# Altium schematic symbol library 691 243 110 0xx.SchLib: 7 symbols
Pins are listed as number, name and electrical type; pins without a type are passive.

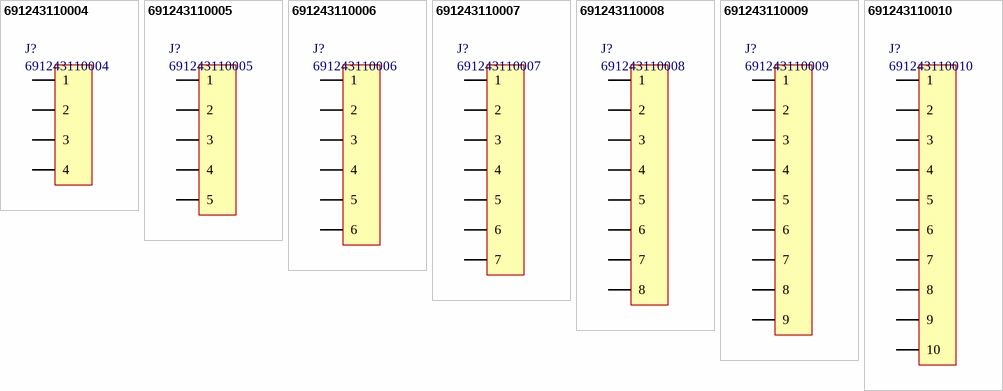
[diagram p0: symbols 691243110004 to 691243110010]

## 691243110004
designator J?
Horizontal Cable Entry with Rising Cage Clamp, Serie 2431 - 3.5 mm; Manufacturer: Wurth Elektronik; ComponentLink1 Description: Manufacturer; ComponentLink2 Description: Datasheet; NoPins: 4; ComponentLink1 URL: http://www.we-online.com; ComponentLink2 URL: http://katalog.we-online.de/em/datasheet/6912431100xx.pdf; Created By: Baojun Chen; Created Date: 27.Aug.2015; PartNo: 691243110004
footprint 691243110004 (Serie 2431 - 3.50 mm_4 pins)
pins: 1, 2, 3, 4

## 691243110005
designator J?
Horizontal Cable Entry with Rising Cage Clamp, Serie 2431 - 3.5 mm; Manufacturer: Wurth Elektronik; ComponentLink1 Description: Manufacturer; ComponentLink2 Description: Datasheet; NoPins: 5; ComponentLink1 URL: http://www.we-online.com; ComponentLink2 URL: http://katalog.we-online.de/em/datasheet/6912431100xx.pdf; Created By: Baojun Chen; Created Date: 27.Aug.2015; PartNo: 691243110005
footprint 691243110005 (Serie 2431 - 3.50 mm_5 pins)
pins: 1, 2, 3, 4, 5

## 691243110006
designator J?
Horizontal Cable Entry with Rising Cage Clamp, Serie 2431 - 3.5 mm; Manufacturer: Wurth Elektronik; ComponentLink1 Description: Manufacturer; ComponentLink2 Description: Datasheet; NoPins: 6; ComponentLink1 URL: http://www.we-online.com; ComponentLink2 URL: http://katalog.we-online.de/em/datasheet/6912431100xx.pdf; Created By: Baojun Chen; Created Date: 27.Aug.2015; PartNo: 691243110006
footprint 691243110006 (Serie 2431 - 3.50 mm_6 pins)
pins: 1, 2, 3, 4, 5, 6

## 691243110007
designator J?
Horizontal Cable Entry with Rising Cage Clamp, Serie 2431 - 3.5 mm; Manufacturer: Wurth Elektronik; ComponentLink1 Description: Manufacturer; ComponentLink2 Description: Datasheet; NoPins: 7; ComponentLink1 URL: http://www.we-online.com; ComponentLink2 URL: http://katalog.we-online.de/em/datasheet/6912431100xx.pdf; Created By: Baojun Chen; Created Date: 27.Aug.2015; PartNo: 691243110007
footprint 691243110007 (Serie 2431 - 3.50 mm_7 pins)
pins: 1, 2, 3, 4, 5, 6, 7

## 691243110008
designator J?
Horizontal Cable Entry with Rising Cage Clamp, Serie 2431 - 3.5 mm; Manufacturer: Wurth Elektronik; ComponentLink1 Description: Manufacturer; ComponentLink2 Description: Datasheet; NoPins: 8; ComponentLink1 URL: http://www.we-online.com; ComponentLink2 URL: http://katalog.we-online.de/em/datasheet/6912431100xx.pdf; Created By: Baojun Chen; Created Date: 27.Aug.2015; PartNo: 691243110008
footprint 691243110008 (Serie 2431 - 3.50 mm_8 pins)
pins: 1, 2, 3, 4, 5, 6, 7, 8

## 691243110009
designator J?
Horizontal Cable Entry with Rising Cage Clamp, Serie 2431 - 3.5 mm; Manufacturer: Wurth Elektronik; ComponentLink1 Description: Manufacturer; ComponentLink2 Description: Datasheet; NoPins: 9; ComponentLink1 URL: http://www.we-online.com; ComponentLink2 URL: http://katalog.we-online.de/em/datasheet/6912431100xx.pdf; Created By: Baojun Chen; Created Date: 27.Aug.2015; PartNo: 691243110009
footprint 691243110009 (Serie 2431 - 3.50 mm_9 pins)
pins: 1, 2, 3, 4, 5, 6, 7, 8, 9

## 691243110010
designator J?
Horizontal Cable Entry with Rising Cage Clamp, Serie 2431 - 3.5 mm; Manufacturer: Wurth Elektronik; ComponentLink1 Description: Manufacturer; ComponentLink2 Description: Datasheet; NoPins: 10; ComponentLink1 URL: http://www.we-online.com; ComponentLink2 URL: http://katalog.we-online.de/em/datasheet/6912431100xx.pdf; Created By: Baojun Chen; Created Date: 27.Aug.2015; PartNo: 691243110010
footprint 691243110010 (Serie 2431 - 3.50 mm_10 pins)
pins: 1, 2, 3, 4, 5, 6, 7, 8, 9, 10